# Altium schematic symbol library Microchip.SchLib: 4 symbols
Pins are listed as number, name and electrical type; pins without a type are passive.

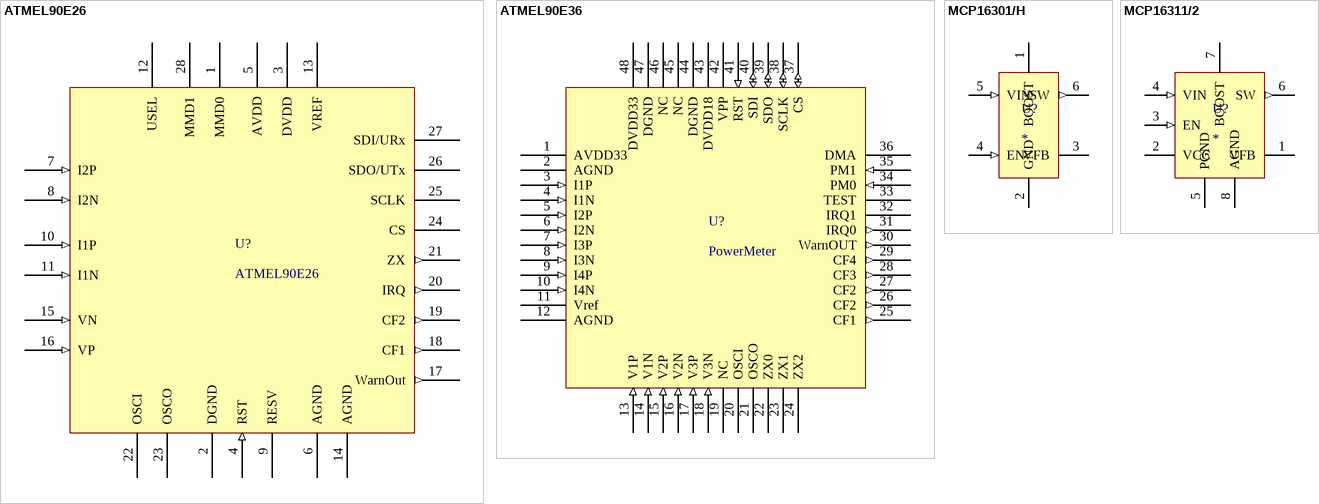
[diagram p0: symbols ATMEL90E26 to MCP16311/2]

## ATMEL90E26
designator U?
Single Phase Meter IC
footprint ATMEL90E26 (Single-phase energy meter)
pins: 1 MMD0, 2 DGND (power), 3 DVDD (power), 4 RST (in), 5 AVDD (power), 6 AGND (power), 7 I2P (in), 8 I2N (in), 9 RESV, 10 I1P (in), 11 I1N (in), 12 USEL, 13 VREF, 14 AGND (power), 15 VN (in), 16 VP (in), 17 WarnOut (out), 18 CF1 (out), 19 CF2 (out), 20 IRQ (out), 21 ZX (out), 22 OSCI, 23 OSCO, 24 CS, 25 SCLK, 26 SDO/UTx, 27 SDI/URx, 28 MMD1

## ATMEL90E36
designator U?, comment PowerMeter
Poly-phase Power Meter
footprint ATMEL90E36 (QFN, 48-Leads, Body 7,00x7,00mm, Pitch 0,50mm, IPC Medium Density)
pins: 1 AVDD33 (power), 2 AGND, 3 I1P (in), 4 I1N (in), 5 I2P (in), 6 I2N (in), 7 I3P (in), 8 I3N (in), 9 I4P (in), 10 I4N (in), 11 Vref (power), 12 AGND, 13 V1P (in), 14 V1N (in), 15 V2P (in), 16 V2N (in), 17 V3P (in), 18 V3N (in), 19 NC, 20 OSCI, 21 OSCO, 22 ZX0, 23 ZX1, 24 ZX2, 25 CF1 (out), 26 CF2 (out), 27 CF2 (out), 28 CF3 (out), 29 CF4 (out), 30 WarnOUT (out), 31 IRQ0 (out), 32 IRQ1, 33 TEST, 34 PM0 (in), 35 PM1 (in), 36 DMA, 37 CS (io), 38 SCLK (io), 39 SDO (io), 40 SDI (io), 41 RST (in), 42 VPP (power), 43 DVDD18 (power), 44 DGND, 45 NC, 46 NC, 47 DGND, 48 DVDD33

## MCP16301/H
designator U?
pins: 1 BOOST, 2 GND, 3 VFB, 4 EN (in), 5 VIN (in), 6 SW (out)

## MCP16311/2
designator U?
Regulador switching step-down
footprint MCP16311/2 (MSOP-8)
pins: 1 VFB, 2 VCC, 3 EN (in), 4 VIN (in), 5 PGND (power), 6 SW (out), 7 BOOST, 8 AGND (power)